# Altium schematic symbol library Resistors_GP.SchLib: 271 symbols (part 1 of 3)
Pins are listed as number, name and electrical type; pins without a type are passive.

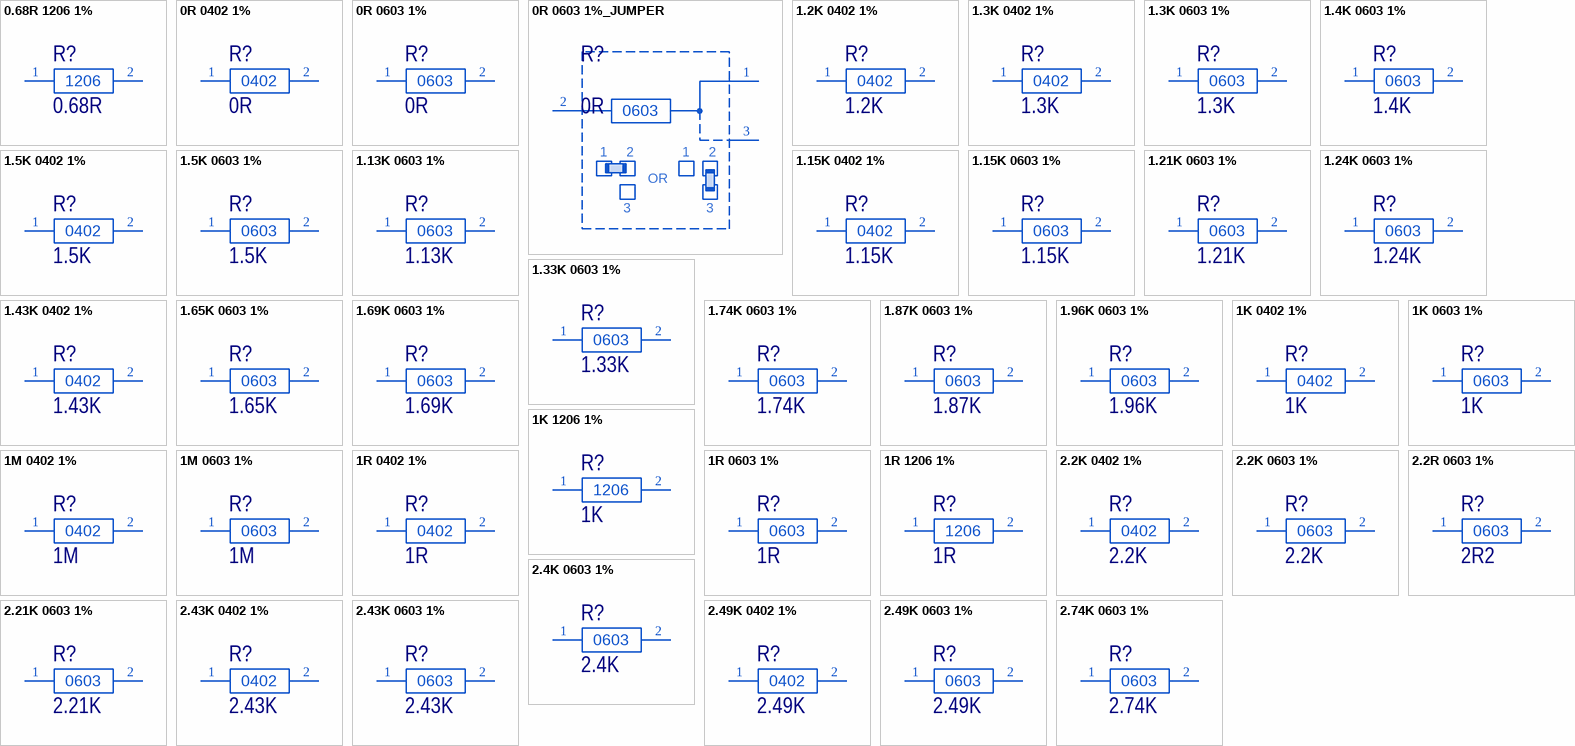
[diagram p0: symbols 0.68R 1206 1% to 2.74K 0603 1%]

## 0.68R 1206 1%
designator R?, comment 0.68R
RES 1206 0R68 1% 0.25W 1000PPMK; PartNumber: RL1206FR-070R68L; Manufacturer: Yageo; Voltage: 200 V; Temperature Coefficient: ± 1000 ppm/°C; Power Dissipation: 250 mW; ItemType: Resistor; ItemSubType: 1206; Value: 0.68R; Tolerance: ± 1 %; Marking: 0R68; Type: Thick Film; Mounting: SMD
footprint R1206GP_0R68 (Resistor 1206)
pins: 1, 2

## 0R 0402 1%
designator R?, comment 0R
RES 0402 0R 1% 0.0625W 100PPMK; PartNumber: RC0402FR-070RL; Manufacturer: Yageo; Voltage: 50 V; Temperature Coefficient: ± 200 ppm/°C; Power Dissipation: 62.5 mW; ItemType: Resistor; ItemSubType: 0402; Value: 0R; Tolerance: ± 1 %; Type: Thick Film; Mounting: SMD
footprint R0402GP (SMD040210X05MM)
footprint R0402GP_0.8 (SMD040210X05MM)
pins: 1, 2

## 0R 0603 1%
designator R?, comment 0R
RES 0603 0R 1% 0.1W 100PPMK; PartNumber: RC0603FR-070RL; Manufacturer: Yageo; Voltage: 75 V; Temperature Coefficient: ± 200 ppm/°C; Marking: 0; Power Dissipation: 100 mW; ItemType: Resistor; ItemSubType: 0603; Value: 0R; Tolerance: ± 1 %; Type: Thick Film; Mounting: SMD
footprint R0603GP_0R (SMD060316X08MM)
pins: 1, 2

## 0R 0603 1%_JUMPER
designator R?, comment 0R
RES 0603 0R 1% 0.1W 100PPMK; PartNumber: RC0603FR-070RL; Manufacturer: Yageo; Voltage: 75 V; Temperature Coefficient: ± 200 ppm/°C; Marking: 0; Power Dissipation: 100 mW; ItemType: Resistor; ItemSubType: 0603; Value: 0R; Tolerance: ± 1 %; Type: Thick Film; Mounting: SMD
footprint R0603GP_0R_JUMPER_1_2 (SMD060316X08MM)
footprint R0603GP_0R_JUMPER_2_3 (SMD060316X08MM)
pins: 1, 2, 3
text: OR

## 1.2K 0402 1%
designator R?, comment 1.2K
RES 0402 1K2 1% 0.0625W 100PPMK; PartNumber: RC0402FR-071K2L; Manufacturer: Yageo; Voltage: 50 V; Temperature Coefficient: ± 100 ppm/°C; Power Dissipation: 62.5 mW; ItemType: Resistor; ItemSubType: 0402; Value: 1.2K; Tolerance: ± 1 %; Type: Thick Film; Mounting: SMD
footprint R0402GP (SMD040210X05MM)
footprint R0402GP_0.8 (SMD040210X05MM)
pins: 1, 2

## 1.3K 0402 1%
designator R?, comment 1.3K
RES 0402 1K3 1% 0.0625W 100PPMK; PartNumber: RC0402FR-071K3L; Manufacturer: Yageo; Voltage: 50 V; Temperature Coefficient: ± 100 ppm/°C; Power Dissipation: 62.5 mW; ItemType: Resistor; ItemSubType: 0402; Value: 1.3K; Tolerance: ± 1 %; Type: Thick Film; Mounting: SMD
footprint R0402GP (SMD040210X05MM)
footprint R0402GP_0.8 (SMD040210X05MM)
pins: 1, 2

## 1.3K 0603 1%
designator R?, comment 1.3K
RES 0603 1K3 1% 0.1W 100PPMK; PartNumber: RC0603FR-071K3L; Manufacturer: Yageo; Voltage: 75 V; Temperature Coefficient: ± 100 ppm/°C; Marking: 132; Power Dissipation: 100 mW; ItemType: Resistor; ItemSubType: 0603; Value: 1.3K; Tolerance: ± 1 %; Type: Thick Film; Mounting: SMD
footprint R0603GP_132 (SMD060316X08MM)
pins: 1, 2

## 1.4K 0603 1%
designator R?, comment 1.4K
RES 0603 1K4 1% 0.1W 100PPMK; PartNumber: RC0603FR-071K4L; Manufacturer: Yageo; Voltage: 75 V; Temperature Coefficient: ± 100 ppm/°C; Marking: 15B; Power Dissipation: 100 mW; ItemType: Resistor; ItemSubType: 0603; Value: 1.4K; Tolerance: ± 1 %; Type: Thick Film; Mounting: SMD
footprint R0603GP_15B (SMD060316X08MM)
pins: 1, 2

## 1.5K 0402 1%
designator R?, comment 1.5K
RES 0402 1K5 1% 0.0625W 100PPMK; PartNumber: RC0402FR-071K5L; Manufacturer: Yageo; Voltage: 50 V; Temperature Coefficient: ± 100 ppm/°C; Power Dissipation: 62.5 mW; ItemType: Resistor; ItemSubType: 0402; Value: 1.5K; Tolerance: ± 1 %; Type: Thick Film; Mounting: SMD
footprint R0402GP (SMD040210X05MM)
footprint R0402GP_0.8 (SMD040210X05MM)
pins: 1, 2

## 1.5K 0603 1%
designator R?, comment 1.5K
RES 0603 1K5 1% 0.1W 100PPMK; PartNumber: RC0603FR-071K5L; Manufacturer: Yageo; Voltage: 75 V; Temperature Coefficient: ± 100 ppm/°C; Marking: 18B or 152; Power Dissipation: 100 mW; ItemType: Resistor; ItemSubType: 0603; Value: 1.5K; Tolerance: ± 1 %; Type: Thick Film; Mounting: SMD
footprint R0603GP_18B (SMD060316X08MM)
pins: 1, 2

## 1.13K 0603 1%
designator R?, comment 1.13K
RES 0603 1K13 1% 0.1W 100PPMK; PartNumber: RC0603FR-071K13L; Manufacturer: Yageo; Voltage: 75 V; Temperature Coefficient: ± 100 ppm/°C; Marking: 06B; Power Dissipation: 100 mW; ItemType: Resistor; ItemSubType: 0603; Value: 1.13K; Tolerance: ± 1 %; Type: Thick Film; Mounting: SMD
footprint R0603GP_06B (SMD060316X08MM)
pins: 1, 2

## 1.15K 0402 1%
designator R?, comment 1.15K
RES 0402 1K15 1% 0.0625W 100PPMK; PartNumber: RC0402FR-071K15L; Manufacturer: Yageo; Voltage: 50 V; Temperature Coefficient: ± 100 ppm/°C; Power Dissipation: 62.5 mW; ItemType: Resistor; ItemSubType: 0402; Value: 1.15K; Tolerance: ± 1 %; Type: Thick Film; Mounting: SMD
footprint R0402GP (SMD040210X05MM)
footprint R0402GP_0.8 (SMD040210X05MM)
pins: 1, 2

## 1.15K 0603 1%
designator R?, comment 1.15K
RES 0603 1K15 1% 0.1W 100PPMK; Manufacturer: Yageo; PartNumber: RC0603FR-071K15L; Voltage: 75 V; Temperature Coefficient: ± 100 ppm/°C; Marking: 07B; Power Dissipation: 100 mW; ItemType: Resistor; ItemSubType: 0603; Type: Thick Film; Tolerance: ± 1 %; Value: 1.15K; Mounting: SMD
footprint R0603GP_07B (SMD060316X08MM)
pins: 1, 2

## 1.21K 0603 1%
designator R?, comment 1.21K
RES 0603 1K21 1% 0.1W 100PPMK; PartNumber: RC0603FR-071K21L; Manufacturer: Yageo; Voltage: 75 V; Temperature Coefficient: ± 100 ppm/°C; Marking: 09B; Power Dissipation: 100 mW; ItemType: Resistor; ItemSubType: 0603; Value: 1.21K; Tolerance: ± 1 %; Type: Thick Film; Mounting: SMD
footprint R0603GP_09B (SMD060316X08MM)
pins: 1, 2

## 1.24K 0603 1%
designator R?, comment 1.24K
RES 0603 1K24 1% 0.1W 100PPMK; PartNumber: RC0603FR-071K24L; Manufacturer: Yageo; Voltage: 75 V; Temperature Coefficient: ± 100 ppm/°C; Marking: 10B; Power Dissipation: 100 mW; ItemType: Resistor; ItemSubType: 0603; Value: 1.24K; Tolerance: ± 1 %; Type: Thick Film; Mounting: SMD
footprint R0603GP_10B (SMD060316X08MM)
pins: 1, 2

## 1.33K 0603 1%
designator R?, comment 1.33K
RES 0603 1K33 1% 0.1W 100PPMK; PartNumber: RC0603FR-071K33L; Manufacturer: Yageo; Voltage: 75 V; Temperature Coefficient: ± 100 ppm/°C; Marking: 13B; Power Dissipation: 100 mW; ItemType: Resistor; ItemSubType: 0603; Value: 1.33K; Tolerance: ± 1 %; Type: Thick Film; Mounting: SMD
footprint R0603GP_13B (SMD060316X08MM)
pins: 1, 2

## 1.43K 0402 1%
designator R?, comment 1.43K
RES 0402 1K43 1% 0.0625W 100PPMK; PartNumber: RC0402FR-071K43L; Manufacturer: Yageo; Voltage: 50 V; Temperature Coefficient: ± 100 ppm/°C; Power Dissipation: 62.5 mW; ItemType: Resistor; ItemSubType: 0402; Value: 1.43K; Tolerance: ± 1 %; Type: Thick Film; Mounting: SMD
footprint R0402GP (SMD040210X05MM)
footprint R0402GP_0.8 (SMD040210X05MM)
pins: 1, 2

## 1.65K 0603 1%
designator R?, comment 1.65K
RES 0603 1K65 1% 0.1W 100PPMK; PartNumber: RC0603FR-071K65L; Manufacturer: Yageo; Voltage: 75 V; Temperature Coefficient: ± 100 ppm/°C; Marking: 22B; Power Dissipation: 100 mW; ItemType: Resistor; ItemSubType: 0603; Value: 1.65K; Tolerance: ± 1 %; Type: Thick Film; Mounting: SMD
footprint R0603GP_22B (SMD060316X08MM)
pins: 1, 2

## 1.69K 0603 1%
designator R?, comment 1.69K
RES 0603 1K69 1% 0.1W 100PPMK; Manufacturer: Yageo; PartNumber: RC0603FR-071K69L; Voltage: 75 V; Temperature Coefficient: ± 100 ppm/°C; Marking: 23B; Power Dissipation: 100 mW; ItemType: Resistor; ItemSubType: 0603; Type: Thick Film; Tolerance: ± 1 %; Value: 1.69K; Mounting: SMD
footprint R0603GP_23B (SMD060316X08MM)
pins: 1, 2

## 1.74K 0603 1%
designator R?, comment 1.74K
RES 0603 1K74 1% 0.1W 100PPMK; PartNumber: RC0603FR-071K74L; Manufacturer: Yageo; Voltage: 75 V; Temperature Coefficient: ± 100 ppm/°C; Marking: 24B; Power Dissipation: 100 mW; ItemType: Resistor; ItemSubType: 0603; Value: 1.74K; Tolerance: ± 1 %; Type: Thick Film; Mounting: SMD
footprint R0603GP_24B (SMD060316X08MM)
pins: 1, 2

## 1.87K 0603 1%
designator R?, comment 1.87K
RES 0603 1K87 1% 0.1W 100PPMK; PartNumber: RC0603FR-071K87L; Manufacturer: Yageo; Voltage: 75 V; Temperature Coefficient: ± 100 ppm/°C; Marking: 27B; Power Dissipation: 100 mW; ItemType: Resistor; ItemSubType: 0603; Value: 1.87K; Tolerance: ± 1 %; Type: Thick Film; Mounting: SMD
footprint R0603GP_27B (SMD060316X08MM)
pins: 1, 2

## 1.96K 0603 1%
designator R?, comment 1.96K
RES 0603 1K96 1% 0.1W 100PPMK; PartNumber: RC0603FR-071K96L; Manufacturer: Yageo; Voltage: 75 V; Temperature Coefficient: ± 100 ppm/°C; Marking: 29B; Power Dissipation: 100 mW; ItemType: Resistor; ItemSubType: 0603; Value: 1.96K; Tolerance: ± 1 %; Type: Thick Film; Mounting: SMD
footprint R0603GP_29B (SMD060316X08MM)
pins: 1, 2

## 1K 0402 1%
designator R?, comment 1K
RES 0402 1K 1% 0.0625W 100PPMK; PartNumber: RC0402FR-071KL; Manufacturer: Yageo; Voltage: 50 V; Temperature Coefficient: ± 100 ppm/°C; Power Dissipation: 62.5 mW; ItemType: Resistor; ItemSubType: 0402; Value: 1K; Tolerance: ± 1 %; Type: Thick Film; Mounting: SMD
footprint R0402GP (SMD040210X05MM)
footprint R0402GP_0.8 (SMD040210X05MM)
pins: 1, 2

## 1K 0603 1%
designator R?, comment 1K
RES 0603 1K 1% 0.1W 100PPMK; PartNumber: RC0603FR-071KL; Manufacturer: Yageo; Voltage: 75 V; Temperature Coefficient: ± 100 ppm/°C; Marking: 01B or 102; Power Dissipation: 100 mW; ItemType: Resistor; ItemSubType: 0603; Value: 1K; Tolerance: ± 1 %; Type: Thick Film; Mounting: SMD
footprint R0603GP_01B (SMD060316X08MM)
pins: 1, 2

## 1K 1206 1%
designator R?, comment 1K
RES 1206 1K 1% 0.25W 100PPMK; PartNumber: RC1206FR-071KL; Manufacturer: Yageo; Voltage: 200 V; Temperature Coefficient: ± 100 ppm/°C; Marking: 01B; Power Dissipation: 250 mW; ItemType: Resistor; ItemSubType: 1206; Value: 1K; Tolerance: ± 1 %; Type: Thick Film; Mounting: SMD
footprint R1206GP_01B (Resistor 1206)
pins: 1, 2

## 1M 0402 1%
designator R?, comment 1M
RES 0402 1M 1% 0.0625W 100PPMK; PartNumber: RC0402FR-071ML; Manufacturer: Yageo; Voltage: 50 V; Temperature Coefficient: ± 100 ppm/°C; Power Dissipation: 62.5 mW; ItemType: Resistor; ItemSubType: 0402; Value: 1M; Tolerance: ± 1 %; Type: Thick Film; Mounting: SMD
footprint R0402GP (SMD040210X05MM)
footprint R0402GP_0.8 (SMD040210X05MM)
pins: 1, 2

## 1M 0603 1%
designator R?, comment 1M
RES 0603 1M 1% 0.1W 100PPMK; PartNumber: RC0603FR-071ML; Manufacturer: Yageo; Voltage: 75 V; Temperature Coefficient: ± 100 ppm/°C; Marking: 01E or 105; Power Dissipation: 100 mW; ItemType: Resistor; ItemSubType: 0603; Value: 1M; Tolerance: ± 1 %; Type: Thick Film; Mounting: SMD
footprint R0603GP_01E (SMD060316X08MM)
pins: 1, 2

## 1R 0402 1%
designator R?, comment 1R
RES 0402 1R 1% 0.0625W 100PPMK; PartNumber: RC0402FR-071RL; Manufacturer: Yageo; Voltage: 50 V; Temperature Coefficient: ± 100 ppm/°C; Power Dissipation: 62.5 mW; ItemType: Resistor; ItemSubType: 0402; Value: 1R; Tolerance: ± 1 %; Type: Thick Film; Mounting: SMD
footprint R0402GP (SMD040210X05MM)
footprint R0402GP_0.8 (SMD040210X05MM)
pins: 1, 2

## 1R 0603 1%
designator R?, comment 1R
RES 0603 1R 1% 0.1W 100PPMK; PartNumber: RC0603FR-071RL; Manufacturer: Yageo; Voltage: 75 V; Temperature Coefficient: ± 200 ppm/°C; Marking: 01Y; Power Dissipation: 100 mW; ItemType: Resistor; ItemSubType: 0603; Value: 1R; Tolerance: ± 1 %; Type: Thick Film; Mounting: SMD
footprint R0603GP_01Y (SMD060316X08MM)
pins: 1, 2

## 1R 1206 1%
designator R?, comment 1R
RES 1206 1R0 1% 0.25W 200PPMK; PartNumber: RC1206FR-071RL; Manufacturer: Yageo; Voltage: 200 V; Temperature Coefficient: ± 200 ppm/°C; Power Dissipation: 250 mW; ItemType: Resistor; ItemSubType: 1206; Value: 1R; Tolerance: ± 1 %; Marking: 1R0; Type: Thick Film; Mounting: SMD
footprint R1206GP_1R0 (Resistor 1206)
pins: 1, 2

## 2.2K 0402 1%
designator R?, comment 2.2K
RES 0402 2K2 1% 0.0625W 100PPMK; PartNumber: RC0402FR-072K2L; Manufacturer: Yageo; Voltage: 50 V; Temperature Coefficient: ± 100 ppm/°C; Power Dissipation: 62.5 mW; ItemType: Resistor; ItemSubType: 0402; Value: 2.2K; Tolerance: ± 1 %; Type: Thick Film; Mounting: SMD
footprint R0402GP (SMD040210X05MM)
footprint R0402GP_0.8 (SMD040210X05MM)
pins: 1, 2

## 2.2K 0603 1%
designator R?, comment 2.2K
RES 0603 2K2 1% 0.1W 100PPMK; PartNumber: RC0603FR-072K2L; Manufacturer: Yageo; Voltage: 75 V; Temperature Coefficient: ± 100 ppm/°C; Marking: 222; Power Dissipation: 100 mW; ItemType: Resistor; ItemSubType: 0603; Value: 2.2K; Tolerance: ± 1 %; Type: Thick Film; Mounting: SMD
footprint R0603GP_222 (SMD060316X08MM)
pins: 1, 2

## 2.2R 0603 1%
designator R?, comment 2R2
RES 0603 2R2 1% 0.1W 100PPMK; PartNumber: RC0603FR-072R2L; Manufacturer: Yageo; Voltage: 75 V; Temperature Coefficient: ± 200 ppm/°C; Power Dissipation: 100 mW; ItemType: Resistor; ItemSubType: 0603; Value: 2R2; Tolerance: ± 1 %; Marking: 2R2; Type: Thick Film; Mounting: SMD
footprint R0603GP_2R2 (SMD060316X08MM)
pins: 1, 2

## 2.4K 0603 1%
designator R?, comment 2.4K
RES 0603 2K4 1% 0.1W 100PPMK; PartNumber: RC0603FR-072K4L; Manufacturer: Yageo; Voltage: 75 V; Temperature Coefficient: ± 100 ppm/°C; Marking: 242; Power Dissipation: 100 mW; ItemType: Resistor; ItemSubType: 0603; Value: 2.4K; Tolerance: ± 1 %; Type: Thick Film; Mounting: SMD
footprint R0603GP_242 (SMD060316X08MM)
pins: 1, 2

## 2.21K 0603 1%
designator R?, comment 2.21K
RES 0603 2K21 1% 0.1W 100PPMK; Manufacturer: Yageo; PartNumber: RC0603FR-072K21L; Voltage: 75 V; Temperature Coefficient: ± 100 ppm/°C; Marking: 34B; Power Dissipation: 100 mW; ItemType: Resistor; ItemSubType: 0603; Type: Thick Film; Tolerance: ± 1 %; Value: 2.21K; Mounting: SMD
footprint R0603GP_34B (SMD060316X08MM)
pins: 1, 2

## 2.43K 0402 1%
designator R?, comment 2.43K
RES 0402 2K43 1% 0.0625W 100PPMK; PartNumber: RC0402FR-072K43L; Manufacturer: Yageo; Voltage: 50 V; Temperature Coefficient: ± 100 ppm/°C; Power Dissipation: 62.5 mW; ItemType: Resistor; ItemSubType: 0402; Value: 2.43K; Tolerance: ± 1 %; Type: Thick Film; Mounting: SMD
footprint R0402GP (SMD040210X05MM)
footprint R0402GP_0.8 (SMD040210X05MM)
pins: 1, 2

## 2.43K 0603 1%
designator R?, comment 2.43K
RES 0603 2K43 1% 0.1W 100PPMK; PartNumber: RC0603FR-072K43L; Manufacturer: Yageo; Voltage: 75 V; Temperature Coefficient: ± 100 ppm/°C; Marking: 38B; Power Dissipation: 100 mW; ItemType: Resistor; ItemSubType: 0603; Value: 2.43K; Tolerance: ± 1 %; Type: Thick Film; Mounting: SMD
footprint R0603GP_38B (SMD060316X08MM)
pins: 1, 2

## 2.49K 0402 1%
designator R?, comment 2.49K
RES 0402 2K49 1% 0.0625W 100PPMK; PartNumber: RC0402FR-072K49L; Manufacturer: Yageo; Voltage: 50 V; Temperature Coefficient: ± 100 ppm/°C; Power Dissipation: 62.5 mW; ItemType: Resistor; ItemSubType: 0402; Value: 2.49K; Tolerance: ± 1 %; Type: Thick Film; Mounting: SMD
footprint R0402GP (SMD040210X05MM)
footprint R0402GP_0.8 (SMD040210X05MM)
pins: 1, 2

## 2.49K 0603 1%
designator R?, comment 2.49K
RES 0603 2K49 1% 0.1W 100PPMK; PartNumber: RC0603FR-072K49L; Manufacturer: Yageo; Voltage: 75 V; Temperature Coefficient: ± 100 ppm/°C; Marking: 39B; Power Dissipation: 100 mW; ItemType: Resistor; ItemSubType: 0603; Value: 2.49K; Tolerance: ± 1 %; Type: Thick Film; Mounting: SMD
footprint R0603GP_39B (SMD060316X08MM)
pins: 1, 2

## 2.74K 0603 1%
designator R?, comment 2.74K
RES 0603 2K74 1% 0.1W 100PPMK; PartNumber: RC0603FR-072K74L; Manufacturer: Yageo; Voltage: 75 V; Temperature Coefficient: ± 100 ppm/°C; Marking: 43B; Power Dissipation: 100 mW; ItemType: Resistor; ItemSubType: 0603; Value: 2.74K; Tolerance: ± 1 %; Type: Thick Film; Mounting: SMD
footprint R0603GP_43B (SMD060316X08MM)
pins: 1, 2

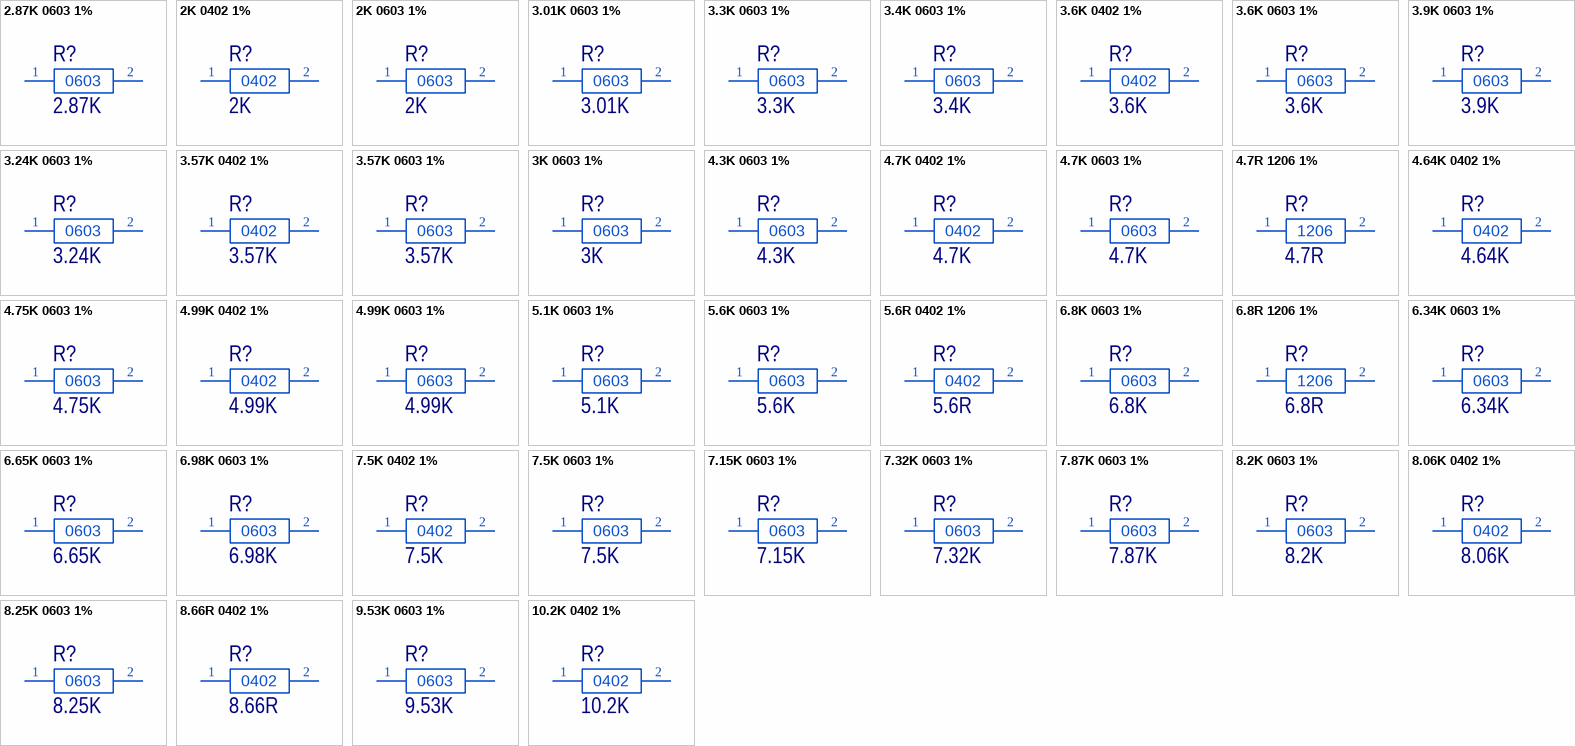
[diagram p1: symbols 2.87K 0603 1% to 10.2K 0402 1%]

## 2.87K 0603 1%
designator R?, comment 2.87K
RES 0603 2K87 1% 0.1W 100PPMK; Manufacturer: Yageo; PartNumber: RC0603FR-072K87L; Voltage: 75 V; Temperature Coefficient: ± 100 ppm/°C; Marking: 45B; Power Dissipation: 100 mW; ItemType: Resistor; ItemSubType: 0603; Type: Thick Film; Tolerance: ± 1 %; Value: 2.87K; Mounting: SMD
footprint R0603GP_45B (SMD060316X08MM)
pins: 1, 2

## 2K 0402 1%
designator R?, comment 2K
RES 0402 2K 1% 0.0625W 100PPMK; PartNumber: RC0402FR-072KL; Manufacturer: Yageo; Voltage: 50 V; Temperature Coefficient: ± 100 ppm/°C; Power Dissipation: 62.5 mW; ItemType: Resistor; ItemSubType: 0402; Value: 2K; Tolerance: ± 1 %; Type: Thick Film; Mounting: SMD
footprint R0402GP (SMD040210X05MM)
footprint R0402GP_0.8 (SMD040210X05MM)
pins: 1, 2

## 2K 0603 1%
designator R?, comment 2K
RES 0603 2K 1% 0.1W 100PPMK; PartNumber: RC0603FR-072KL; Manufacturer: Yageo; Voltage: 75 V; Temperature Coefficient: ± 100 ppm/°C; Marking: 30B or 202; Power Dissipation: 100 mW; ItemType: Resistor; ItemSubType: 0603; Value: 2K; Tolerance: ± 1 %; Type: Thick Film; Mounting: SMD
footprint R0603GP_30B (SMD060316X08MM)
pins: 1, 2

## 3.01K 0603 1%
designator R?, comment 3.01K
RES 0603 3K01 1% 0.1W 100PPMK; PartNumber: RC0603FR-073K01L; Manufacturer: Yageo; Voltage: 75 V; Temperature Coefficient: ± 100 ppm/°C; Marking: 47B; Power Dissipation: 100 mW; ItemType: Resistor; ItemSubType: 0603; Value: 3.01K; Tolerance: ± 1 %; Type: Thick Film; Mounting: SMD
footprint R0603GP_47B (SMD060316X08MM)
pins: 1, 2

## 3.3K 0603 1%
designator R?, comment 3.3K
RES 0603 3K3 1% 0.1W 100PPMK; PartNumber: RC0603FR-073K3L; Manufacturer: Yageo; Voltage: 75 V; Temperature Coefficient: ± 100 ppm/°C; Marking: 332; Power Dissipation: 100 mW; ItemType: Resistor; ItemSubType: 0603; Value: 3.3K; Tolerance: ± 1 %; Type: Thick Film; Mounting: SMD
footprint R0603GP_332 (SMD060316X08MM)
pins: 1, 2

## 3.4K 0603 1%
designator R?, comment 3.4K
RES 0603 3K4 1% 0.1W 100PPMK; PartNumber: RC0603FR-073K4L; Manufacturer: Yageo; Voltage: 75 V; Temperature Coefficient: ± 100 ppm/°C; Marking: 52B; Power Dissipation: 100 mW; ItemType: Resistor; ItemSubType: 0603; Value: 3.4K; Tolerance: ± 1 %; Type: Thick Film; Mounting: SMD
footprint R0603GP_52B (SMD060316X08MM)
pins: 1, 2

## 3.6K 0402 1%
designator R?, comment 3.6K
RES 0402 3K6 1% 0.0625W 100PPMK; PartNumber: RC0402FR-073K6L; Manufacturer: Yageo; Voltage: 50 V; Temperature Coefficient: ± 100 ppm/°C; Power Dissipation: 62.5 mW; ItemType: Resistor; ItemSubType: 0402; Value: 3.6K; Tolerance: ± 1 %; Type: Thick Film; Mounting: SMD
footprint R0402GP (SMD040210X05MM)
footprint R0402GP_0.8 (SMD040210X05MM)
pins: 1, 2

## 3.6K 0603 1%
designator R?, comment 3.6K
RES 0603 3K6 1% 0.1W 100PPMK; PartNumber: RC0603FR-073K6L; Manufacturer: Yageo; Voltage: 75 V; Temperature Coefficient: ± 100 ppm/°C; Marking: 362; Power Dissipation: 100 mW; ItemType: Resistor; ItemSubType: 0603; Value: 3.6K; Tolerance: ± 1 %; Type: Thick Film; Mounting: SMD
footprint R0603GP_362 (SMD060316X08MM)
pins: 1, 2

## 3.9K 0603 1%
designator R?, comment 3.9K
RES 0603 3K9 1% 0.1W 100PPMK; PartNumber: RC0603FR-073K9L; Manufacturer: Yageo; Voltage: 75 V; Temperature Coefficient: ± 100 ppm/°C; Marking: 392; Power Dissipation: 100 mW; ItemType: Resistor; ItemSubType: 0603; Value: 3.9K; Tolerance: ± 1 %; Type: Thick Film; Mounting: SMD
footprint R0603GP_392 (SMD060316X08MM)
pins: 1, 2

## 3.24K 0603 1%
designator R?, comment 3.24K
RES 0603 3K24 1% 0.1W 100PPMK; PartNumber: RC0603FR-073K24L; Manufacturer: Yageo; Voltage: 75 V; Temperature Coefficient: ± 100 ppm/°C; Marking: 50B; Power Dissipation: 100 mW; ItemType: Resistor; ItemSubType: 0603; Value: 3.24K; Tolerance: ± 1 %; Type: Thick Film; Mounting: SMD
footprint R0603GP_50B (SMD060316X08MM)
pins: 1, 2

## 3.57K 0402 1%
designator R?, comment 3.57K
RES 0402 3K57 1% 0.0625W 100PPMK; PartNumber: RC0402FR-073K57L; Manufacturer: Yageo; Voltage: 50 V; Temperature Coefficient: ± 100 ppm/°C; Power Dissipation: 62.5 mW; ItemType: Resistor; ItemSubType: 0402; Value: 3.57K; Tolerance: ± 1 %; Type: Thick Film; Mounting: SMD
footprint R0402GP (SMD040210X05MM)
footprint R0402GP_0.8 (SMD040210X05MM)
pins: 1, 2

## 3.57K 0603 1%
designator R?, comment 3.57K
RES 0603 3K57 1% 0.1W 100PPMK; Manufacturer: Yageo; PartNumber: RC0603FR-073K57L; Voltage: 75 V; Temperature Coefficient: ± 100 ppm/°C; Marking: 54B; Power Dissipation: 100 mW; ItemType: Resistor; ItemSubType: 0603; Type: Thick Film; Tolerance: ± 1 %; Value: 3.57K; Mounting: SMD
footprint R0603GP_54B (SMD060316X08MM)
pins: 1, 2

## 3K 0603 1%
designator R?, comment 3K
RES 0603 3K 1% 0.1W 100PPMK; PartNumber: RC0603FR-073KL; Manufacturer: Yageo; Voltage: 75 V; Temperature Coefficient: ± 100 ppm/°C; Marking: 302; Power Dissipation: 100 mW; ItemType: Resistor; ItemSubType: 0603; Value: 3K; Tolerance: ± 1 %; Type: Thick Film; Mounting: SMD
footprint R0603GP_302 (SMD060316X08MM)
pins: 1, 2

## 4.3K 0603 1%
designator R?, comment 4.3K
RES 0603 4K3 1% 0.1W 100PPMK; PartNumber: RC0603FR-074K3L; Manufacturer: Yageo; Voltage: 75 V; Temperature Coefficient: ± 100 ppm/°C; Marking: 432; Power Dissipation: 100 mW; ItemType: Resistor; ItemSubType: 0603; Value: 4.3K; Tolerance: ± 1 %; Type: Thick Film; Mounting: SMD
footprint R0603GP_432 (SMD060316X08MM)
pins: 1, 2

## 4.7K 0402 1%
designator R?, comment 4.7K
RES 0402 4K7 1% 0.0625W 100PPMK; PartNumber: RC0402FR-074K7L; Manufacturer: Yageo; Voltage: 50 V; Temperature Coefficient: ± 100 ppm/°C; Power Dissipation: 62.5 mW; ItemType: Resistor; ItemSubType: 0402; Value: 4.7K; Tolerance: ± 1 %; Type: Thick Film; Mounting: SMD
footprint R0402GP (SMD040210X05MM)
footprint R0402GP_0.8 (SMD040210X05MM)
pins: 1, 2

## 4.7K 0603 1%
designator R?, comment 4.7K
RES 0603 4K7 1% 0.1W 100PPMK; PartNumber: RC0603FR-074K7L; Manufacturer: Yageo; Voltage: 75 V; Temperature Coefficient: ± 100 ppm/°C; Marking: 472; Power Dissipation: 100 mW; ItemType: Resistor; ItemSubType: 0603; Value: 4.7K; Tolerance: ± 1 %; Type: Thick Film; Mounting: SMD
footprint R0603GP_472 (SMD060316X08MM)
pins: 1, 2

## 4.7R 1206 1%
designator R?, comment 4.7R
RES 1206 4R7 1% 0.25W 200PPMK; PartNumber: RC1206FR-074R7L; Manufacturer: Yageo; Voltage: 200 V; Temperature Coefficient: ± 200 ppm/°C; Power Dissipation: 250 mW; ItemType: Resistor; ItemSubType: 1206; Value: 4.7R; Tolerance: ± 1 %; Marking: 4R7; Type: Thick Film; Mounting: SMD
footprint R1206GP_4R7 (Resistor 1206)
pins: 1, 2

## 4.64K 0402 1%
designator R?, comment 4.64K
RES 0402 4K64 1% 0.0625W 100PPMK; PartNumber: RC0402FR-074K64L; Manufacturer: Yageo; Voltage: 50 V; Temperature Coefficient: ± 100 ppm/°C; Power Dissipation: 62.5 mW; ItemType: Resistor; ItemSubType: 0402; Value: 4.64K; Tolerance: ± 1 %; Type: Thick Film; Mounting: SMD
footprint R0402GP (SMD040210X05MM)
footprint R0402GP_0.8 (SMD040210X05MM)
pins: 1, 2

## 4.75K 0603 1%
designator R?, comment 4.75K
RES 0603 4K75 1% 0.1W 100PPMK; PartNumber: RC0603FR-074K75L; Manufacturer: Yageo; Voltage: 75 V; Temperature Coefficient: ± 100 ppm/°C; Marking: 66B; Power Dissipation: 100 mW; ItemType: Resistor; ItemSubType: 0603; Value: 4.75K; Tolerance: ± 1 %; Type: Thick Film; Mounting: SMD
footprint R0603GP_66B (SMD060316X08MM)
pins: 1, 2

## 4.99K 0402 1%
designator R?, comment 4.99K
RES 0402 4K99 1% 0.0625W 100PPMK; PartNumber: RC0402FR-074K99L; Manufacturer: Yageo; Voltage: 50 V; Temperature Coefficient: ± 100 ppm/°C; Power Dissipation: 62.5 mW; ItemType: Resistor; ItemSubType: 0402; Value: 4.99K; Tolerance: ± 1 %; Type: Thick Film; Mounting: SMD
footprint R0402GP (SMD040210X05MM)
footprint R0402GP_0.8 (SMD040210X05MM)
pins: 1, 2

## 4.99K 0603 1%
designator R?, comment 4.99K
RES 0603 4K99 1% 0.1W 100PPMK; PartNumber: RC0603FR-074K99L; Manufacturer: Yageo; Voltage: 75 V; Temperature Coefficient: ± 100 ppm/°C; Marking: 68B; Power Dissipation: 100 mW; ItemType: Resistor; ItemSubType: 0603; Value: 4.99K; Tolerance: ± 1 %; Type: Thick Film; Mounting: SMD
footprint R0603GP_68B (SMD060316X08MM)
pins: 1, 2

## 5.1K 0603 1%
designator R?, comment 5.1K
RES 0603 5K1 1% 0.1W 100PPMK; PartNumber: RC0603FR-075K1L; Manufacturer: Yageo; Voltage: 75 V; Temperature Coefficient: ± 100 ppm/°C; Marking: 512; Power Dissipation: 100 mW; ItemType: Resistor; ItemSubType: 0603; Value: 5.1K; Tolerance: ± 1 %; Type: Thick Film; Mounting: SMD
footprint R0603GP_512 (SMD060316X08MM)
pins: 1, 2

## 5.6K 0603 1%
designator R?, comment 5.6K
RES 0603 5K6 1% 0.1W 100PPMK; PartNumber: RC0603FR-075K6L; Manufacturer: Yageo; Voltage: 75 V; Temperature Coefficient: ± 100 ppm/°C; Marking: 562; Power Dissipation: 100 mW; ItemType: Resistor; ItemSubType: 0603; Value: 5.6K; Tolerance: ± 1 %; Type: Thick Film; Mounting: SMD
footprint R0603GP_562 (SMD060316X08MM)
pins: 1, 2

## 5.6R 0402 1%
designator R?, comment 5.6R
RES 0402 5R6 1% 0.0625W 100PPMK; PartNumber: RC0402FR-075R6L; Manufacturer: Yageo; Voltage: 50 V; Temperature Coefficient: ± 100 ppm/°C; Power Dissipation: 62.5 mW; ItemType: Resistor; ItemSubType: 0402; Value: 5.6R; Tolerance: ± 1 %; Type: Thick Film; Mounting: SMD
footprint R0402GP (SMD040210X05MM)
footprint R0402GP_0.8 (SMD040210X05MM)
pins: 1, 2

## 6.8K 0603 1%
designator R?, comment 6.8K
RES 0603 6K8 1% 0.1W 100PPMK; PartNumber: RC0603FR-076K8L; Manufacturer: Yageo; Voltage: 75 V; Temperature Coefficient: ± 100 ppm/°C; Marking: 682; Power Dissipation: 100 mW; ItemType: Resistor; ItemSubType: 0603; Tolerance: ± 1 %; Type: Thick Film; Value: 6.8K; Mounting: SMD
footprint R0603GP_682 (SMD060316X08MM)
pins: 1, 2

## 6.8R 1206 1%
designator R?, comment 6.8R
RES 1206 6R8 1% 0.25W 200PPMK; PartNumber: RC1206FR-076R8L; Manufacturer: Yageo; Voltage: 200 V; Temperature Coefficient: ± 200 ppm/°C; Power Dissipation: 250 mW; ItemType: Resistor; ItemSubType: 1206; Value: 6.8R; Tolerance: ± 1 %; Marking: 6R8; Type: Thick Film; Mounting: SMD
footprint R1206GP_6R8 (Resistor 1206)
pins: 1, 2

## 6.34K 0603 1%
designator R?, comment 6.34K
RES 0603 6K34 1% 0.1W 100PPMK; PartNumber: RC0603FR-076K34L; Manufacturer: Yageo; Voltage: 75 V; Temperature Coefficient: ± 100 ppm/°C; Marking: 78B; Power Dissipation: 100 mW; ItemType: Resistor; ItemSubType: 0603; Value: 6.34K; Tolerance: ± 1 %; Type: Thick Film; Mounting: SMD
footprint R0603GP_78B (SMD060316X08MM)
pins: 1, 2

## 6.65K 0603 1%
designator R?, comment 6.65K
RES 0603 6K65 1% 0.1W 100PPMK; PartNumber: RC0603FR-076K65L; Manufacturer: Yageo; Voltage: 75 V; Temperature Coefficient: ± 100 ppm/°C; Marking: 80B; Power Dissipation: 100 mW; ItemType: Resistor; ItemSubType: 0603; Value: 6.65K; Tolerance: ± 1 %; Type: Thick Film; Mounting: SMD
footprint R0603GP_80B (SMD060316X08MM)
pins: 1, 2

## 6.98K 0603 1%
designator R?, comment 6.98K
RES 0603 6K98 1% 0.1W 100PPMK; PartNumber: RC0603FR-076K98L; Manufacturer: Yageo; Voltage: 75 V; Temperature Coefficient: ± 100 ppm/°C; Marking: 82B; Power Dissipation: 100 mW; ItemType: Resistor; ItemSubType: 0603; Tolerance: ± 1 %; Type: Thick Film; Value: 6.98K; Mounting: SMD
footprint R0603GP_82B (SMD060316X08MM)
pins: 1, 2

## 7.5K 0402 1%
designator R?, comment 7.5K
RES 0402 7K5 1% 0.0625W 100PPMK; PartNumber: RC0402FR-077K5L; Manufacturer: Yageo; Voltage: 50 V; Temperature Coefficient: ± 100 ppm/°C; Power Dissipation: 62.5 mW; ItemType: Resistor; ItemSubType: 0402; Value: 7.5K; Tolerance: ± 1 %; Type: Thick Film; Mounting: SMD
footprint R0402GP (SMD040210X05MM)
footprint R0402GP_0.8 (SMD040210X05MM)
pins: 1, 2

## 7.5K 0603 1%
designator R?, comment 7.5K
RES 0603 7K5 1% 0.1W 100PPMK; PartNumber: RC0603FR-077K5L; Manufacturer: Yageo; Voltage: 75 V; Temperature Coefficient: ± 100 ppm/°C; Marking: 85B or 752; Power Dissipation: 100 mW; ItemType: Resistor; ItemSubType: 0603; Tolerance: ± 1 %; Type: Thick Film; Value: 7.5K; Mounting: SMD
footprint R0603GP_85B (SMD060316X08MM)
pins: 1, 2

## 7.15K 0603 1%
designator R?, comment 7.15K
RES 0603 7K15 1% 0.1W 100PPMK; Manufacturer: Yageo; PartNumber: RC0603FR-077K15L; Voltage: 75 V; Temperature Coefficient: ± 100 ppm/°C; Marking: 83B; Power Dissipation: 100 mW; ItemType: Resistor; ItemSubType: 0603; Type: Thick Film; Tolerance: ± 1 %; Value: 7.15K; Mounting: SMD
footprint R0603GP_83B (SMD060316X08MM)
pins: 1, 2

## 7.32K 0603 1%
designator R?, comment 7.32K
RES 0603 7K32 1% 0.1W 100PPMK; Manufacturer: Yageo; PartNumber: RC0603FR-077K32L; Voltage: 75 V; Temperature Coefficient: ± 100 ppm/°C; Marking: 84B; Power Dissipation: 100 mW; ItemType: Resistor; ItemSubType: 0603; Type: Thick Film; Tolerance: ± 1 %; Value: 7.32K; Mounting: SMD
footprint R0603GP_84B (SMD060316X08MM)
pins: 1, 2

## 7.87K 0603 1%
designator R?, comment 7.87K
RES 0603 7K87 1% 0.1W 100PPMK; PartNumber: RC0603FR-077K87L; Manufacturer: Yageo; Voltage: 75 V; Temperature Coefficient: ± 100 ppm/°C; Marking: 87B; Power Dissipation: 100 mW; ItemType: Resistor; ItemSubType: 0603; Tolerance: ± 1 %; Type: Thick Film; Value: 7.87K; Mounting: SMD
footprint R0603GP_87B (SMD060316X08MM)
pins: 1, 2

## 8.2K 0603 1%
designator R?, comment 8.2K
RES 0603 8K2 1% 0.1W 100PPMK; PartNumber: RC0603FR-078K2L; Manufacturer: Yageo; Voltage: 75 V; Temperature Coefficient: ± 100 ppm/°C; Marking: 822; Power Dissipation: 100 mW; ItemType: Resistor; ItemSubType: 0603; Tolerance: ± 1 %; Type: Thick Film; Value: 8.2K; Mounting: SMD
footprint R0603GP_822 (SMD060316X08MM)
pins: 1, 2

## 8.06K 0402 1%
designator R?, comment 8.06K
RES 0402 8K06 1% 0.0625W 100PPMK; PartNumber: RC0402FR-078K06L; Manufacturer: Yageo; Voltage: 50 V; Temperature Coefficient: ± 100 ppm/°C; Power Dissipation: 62.5 mW; ItemType: Resistor; ItemSubType: 0402; Value: 8.06K; Tolerance: ± 1 %; Type: Thick Film; Mounting: SMD
footprint R0402GP (SMD040210X05MM)
footprint R0402GP_0.8 (SMD040210X05MM)
pins: 1, 2

## 8.25K 0603 1%
designator R?, comment 8.25K
RES 0603 8K25 1% 0.1W 100PPMK; PartNumber: RC0603FR-078K25L; Manufacturer: Yageo; Voltage: 75 V; Temperature Coefficient: ± 100 ppm/°C; Marking: 89B; Power Dissipation: 100 mW; ItemType: Resistor; ItemSubType: 0603; Value: 8.25K; Tolerance: ± 1 %; Type: Thick Film; Mounting: SMD
footprint R0603GP_89B (SMD060316X08MM)
pins: 1, 2

## 8.66R 0402 1%
designator R?, comment 8.66R
RES 0402 8R66 1% 0.0625W 100PPMK; PartNumber: RC0402FR-078R66L; Manufacturer: Yageo; Voltage: 50 V; Temperature Coefficient: ± 100 ppm/°C; Power Dissipation: 62.5 mW; ItemType: Resistor; ItemSubType: 0402; Value: 8.66R; Tolerance: ± 1 %; Type: Thick Film; Mounting: SMD
footprint R0402GP (SMD040210X05MM)
footprint R0402GP_0.8 (SMD040210X05MM)
pins: 1, 2

## 9.53K 0603 1%
designator R?, comment 9.53K
RES 0603 9K53 1% 0.1W 100PPMK; PartNumber: RC0603FR-079K53L; Manufacturer: Yageo; Voltage: 75 V; Temperature Coefficient: ± 100 ppm/°C; Marking: 95B; Power Dissipation: 100 mW; ItemType: Resistor; ItemSubType: 0603; Tolerance: ± 1 %; Type: Thick Film; Value: 9.53K; Mounting: SMD
footprint R0603GP_95B (SMD060316X08MM)
pins: 1, 2

## 10.2K 0402 1%
designator R?, comment 10.2K
RES 0402 10K2 1% 0.0625W 100PPMK; PartNumber: RC0402FR-0710K2L; Manufacturer: Yageo; Voltage: 50 V; Temperature Coefficient: ± 100 ppm/°C; Power Dissipation: 62.5 mW; ItemType: Resistor; ItemSubType: 0402; Value: 10.2K; Tolerance: ± 1 %; Type: Thick Film; Mounting: SMD
footprint R0402GP (SMD040210X05MM)
footprint R0402GP_0.8 (SMD040210X05MM)
pins: 1, 2

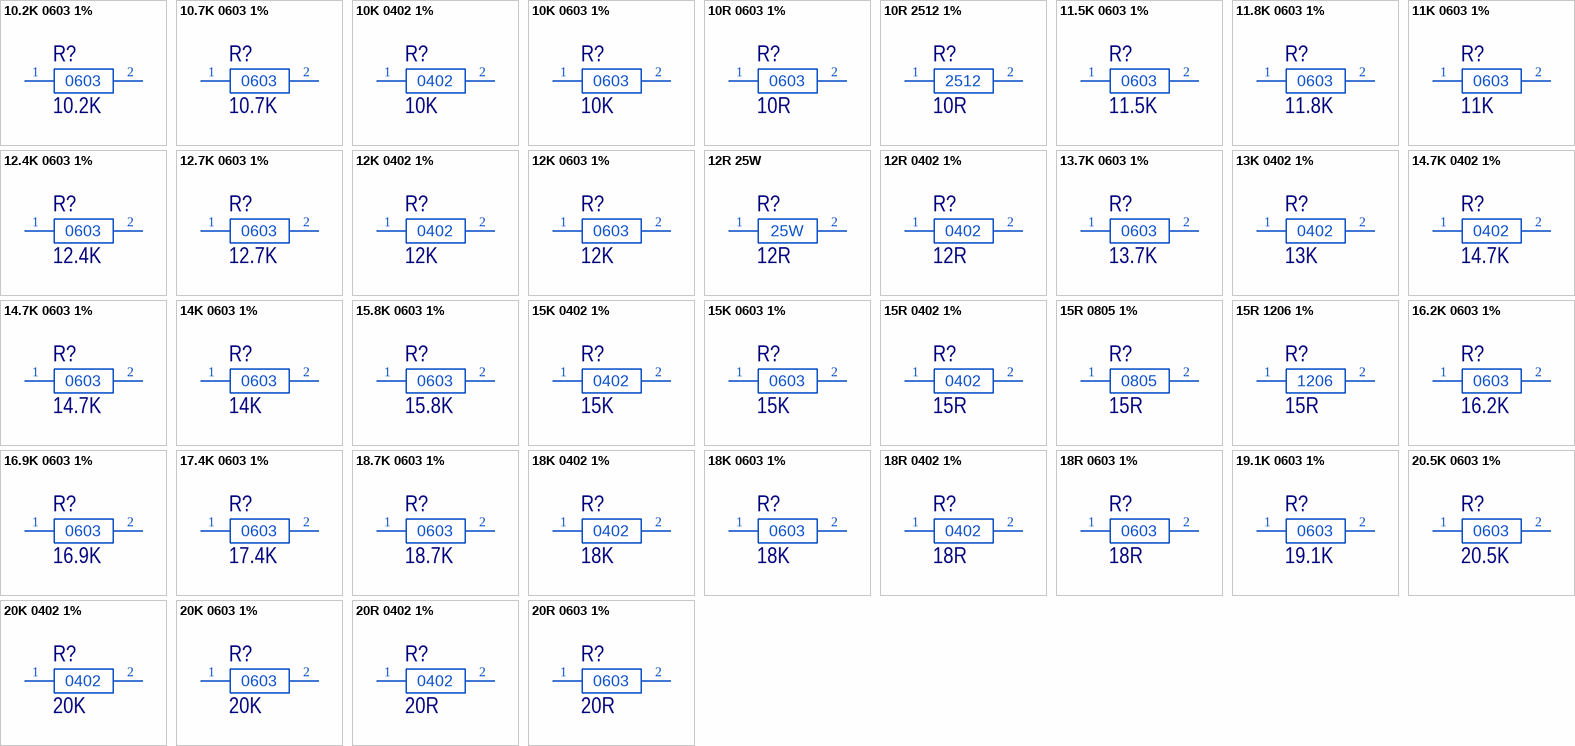
[diagram p2: symbols 10.2K 0603 1% to 20R 0603 1%]

## 10.2K 0603 1%
designator R?, comment 10.2K
RES 0603 10K2 1% 0.1W 100PPMK; Manufacturer: Yageo; PartNumber: RC0603FR-0710K2L; Voltage: 75 V; Temperature Coefficient: ± 100 ppm/°C; Marking: 02C; Power Dissipation: 100 mW; ItemType: Resistor; ItemSubType: 0603; Type: Thick Film; Tolerance: ± 1 %; Value: 10.2K; Mounting: SMD
footprint R0603GP_02C (SMD060316X08MM)
pins: 1, 2

## 10.7K 0603 1%
designator R?, comment 10.7K
RES 0603 10K7 1% 0.1W 100PPMK; Manufacturer: Yageo; PartNumber: RC0603FR-0710K7L; Voltage: 75 V; Temperature Coefficient: ± 100 ppm/°C; Marking: 04C; Power Dissipation: 100 mW; ItemType: Resistor; ItemSubType: 0603; Type: Thick Film; Tolerance: ± 1 %; Value: 10.7K; Mounting: SMD
footprint R0603GP_04C (SMD060316X08MM)
pins: 1, 2

## 10K 0402 1%
designator R?, comment 10K
RES 0402 10K 1% 0.0625W 100PPMK; PartNumber: RC0402FR-0710KL; Manufacturer: Yageo; Voltage: 50 V; Temperature Coefficient: ± 100 ppm/°C; Power Dissipation: 62.5 mW; ItemType: Resistor; ItemSubType: 0402; Value: 10K; Tolerance: ± 1 %; Type: Thick Film; Mounting: SMD
footprint R0402GP (SMD040210X05MM)
footprint R0402GP_0.8 (SMD040210X05MM)
pins: 1, 2

## 10K 0603 1%
designator R?, comment 10K
RES 0603 10K 1% 0.1W 100PPMK; Manufacturer: Yageo; PartNumber: RC0603FR-0710KL; Voltage: 75 V; Temperature Coefficient: ± 100 ppm/°C; Marking: 01C or 103; Power Dissipation: 100 mW; ItemType: Resistor; ItemSubType: 0603; Type: Thick Film; Tolerance: ± 1 %; Value: 10K; Mounting: SMD
footprint R0603GP_01C (SMD060316X08MM)
pins: 1, 2

## 10R 0603 1%
designator R?, comment 10R
RES 0603 10R 1% 0.1W 100PPMK; PartNumber: RC0603FR-0710RL; Manufacturer: Yageo; Voltage: 75 V; Temperature Coefficient: ± 200 ppm/°C; Marking: 01X or 100; Alternative1: AC0603FR-0710RL; Power Dissipation: 100 mW; ItemType: Resistor; ItemSubType: 0603; Value: 10R; Tolerance: ± 1 %; AltManufacturer1: Yageo; Type: Thick Film; Mounting: SMD
footprint R0603GP_01X (SMD060316X08MM)
pins: 1, 2

## 10R 2512 1%
designator R?, comment 10R
Thick Film Resistor 2512; PartNumber: RC2512FK-0710RL; Manufacturer: Yageo; Tolerance: ± 1 %; Voltage: 200 V; Temperature Coefficient: ± 200 ppm/°C; Marking: 10R0; Power Dissipation: 1 W; ItemSubType: 0603; Value: 10R; Type: Thick Film; ItemType: Resistor; Mounting: SMD
footprint R2512GP_10R (Resistor 2512)
pins: 1, 2
text: 2512

## 11.5K 0603 1%
designator R?, comment 11.5K
RES 0603 11.5K 1% 0.1W 100PPMK; Manufacturer: Yageo; PartNumber: RC0603FR-0711K5L; Voltage: 75 V; Temperature Coefficient: ± 100 ppm/°C; Marking: 07C; Power Dissipation: 100 mW; ItemType: Resistor; ItemSubType: 0603; Type: Thick Film; Tolerance: ± 1 %; Value: 11.5K; Mounting: SMD
footprint R0603GP_07C (SMD060316X08MM)
pins: 1, 2

## 11.8K 0603 1%
designator R?, comment 11.8K
RES 0603 11K8 1% 0.1W 100PPMK; PartNumber: RC0603FR-0711K8L; Manufacturer: Yageo; Voltage: 75 V; Temperature Coefficient: ± 100 ppm/°C; Marking: 08C; Power Dissipation: 100 mW; ItemType: Resistor; ItemSubType: 0603; Value: 11.8K; Tolerance: ± 1 %; Type: Thick Film; Mounting: SMD
footprint R0603GP_08C (SMD060316X08MM)
pins: 1, 2

## 11K 0603 1%
designator R?, comment 11K
RES 0603 11K 1% 0.1W 100PPMK; Manufacturer: Yageo; PartNumber: RC0603FR-0711KL; Voltage: 75 V; Temperature Coefficient: ± 100 ppm/°C; Marking: 113; Power Dissipation: 100 mW; ItemType: Resistor; ItemSubType: 0603; Type: Thick Film; Tolerance: ± 1 %; Value: 11K; Mounting: SMD
footprint R0603GP_113 (SMD060316X08MM)
pins: 1, 2

## 12.4K 0603 1%
designator R?, comment 12.4K
RES 0603 12K4 1% 0.1W 100PPMK; Manufacturer: Yageo; PartNumber: RC0603FR-0712K4L; Voltage: 75 V; Temperature Coefficient: ± 100 ppm/°C; Marking: 10C; Power Dissipation: 100 mW; ItemType: Resistor; ItemSubType: 0603; Type: Thick Film; Tolerance: ± 1 %; Value: 12.4K; Mounting: SMD
footprint R0603GP_10C (SMD060316X08MM)
pins: 1, 2

## 12.7K 0603 1%
designator R?, comment 12.7K
RES 0603 12K7 1% 0.1W 100PPMK; Manufacturer: Yageo; PartNumber: RC0603FR-0712K7L; Voltage: 75 V; Temperature Coefficient: ± 100 ppm/°C; Marking: 11C; Power Dissipation: 100 mW; ItemType: Resistor; ItemSubType: 0603; Type: Thick Film; Tolerance: ± 1 %; Value: 12.7K; Mounting: SMD
footprint R0603GP_11C (SMD060316X08MM)
pins: 1, 2

## 12K 0402 1%
designator R?, comment 12K
RES 0402 12K 1% 0.0625W 100PPMK; PartNumber: RC0402FR-0712KL; Manufacturer: Yageo; Voltage: 50 V; Temperature Coefficient: ± 100 ppm/°C; Power Dissipation: 62.5 mW; ItemType: Resistor; ItemSubType: 0402; Value: 12K; Tolerance: ± 1 %; Type: Thick Film; Mounting: SMD
footprint R0402GP (SMD040210X05MM)
footprint R0402GP_0.8 (SMD040210X05MM)
pins: 1, 2

## 12K 0603 1%
designator R?, comment 12K
RES 0603 12K 1% 0.1W 100PPMK; Manufacturer: Yageo; PartNumber: RC0603FR-0712KL; Voltage: 75 V; Temperature Coefficient: ± 100 ppm/°C; Marking: 123; Power Dissipation: 100 mW; ItemType: Resistor; ItemSubType: 0603; Type: Thick Film; Tolerance: ± 1 %; Value: 12K; Mounting: SMD
footprint R0603GP_123 (SMD060316X08MM)
pins: 1, 2

## 12R 25W
designator R?, comment 12R
Cement Resistor SQP25A; PartNumber: SQP25AJB-12R; Manufacturer: Yageo; Tolerance: ± 1 %; Voltage: 1000 V; Temperature Coefficient: ± 300 ppm/°C; Marking: 12RJ; Power Dissipation: 25 W; Value: 12R; Type: Cement; ItemType: Resistor; ItemSubType: SQP25A; Mounting: THT
footprint SQP25A_12R_YAGEO (Resistor SQP25A)
pins: 1, 2
text: 25W

## 12R 0402 1%
designator R?, comment 12R
RES 0402 12R 1% 0.0625W 100PPMK; PartNumber: RC0402FR-0712RL; Manufacturer: Yageo; Voltage: 50 V; Temperature Coefficient: ± 100 ppm/°C; Power Dissipation: 62.5 mW; ItemType: Resistor; ItemSubType: 0402; Value: 12R; Tolerance: ± 1 %; Type: Thick Film; Mounting: SMD
footprint R0402GP (SMD040210X05MM)
footprint R0402GP_0.8 (SMD040210X05MM)
pins: 1, 2

## 13.7K 0603 1%
designator R?, comment 13.7K
RES 0603 13K7 1% 0.1W 100PPMK; Manufacturer: Yageo; PartNumber: RC0603FR-0713K7L; Voltage: 75 V; Temperature Coefficient: ± 100 ppm/°C; Marking: 14C; Power Dissipation: 100 mW; ItemType: Resistor; ItemSubType: 0603; Type: Thick Film; Tolerance: ± 1 %; Value: 13.7K; Mounting: SMD
footprint R0603GP_14C (SMD060316X08MM)
pins: 1, 2

## 13K 0402 1%
designator R?, comment 13K
RES 0402 13K 1% 0.0625W 100PPMK; PartNumber: RC0402FR-0713KL; Manufacturer: Yageo; Voltage: 50 V; Temperature Coefficient: ± 100 ppm/°C; Power Dissipation: 62.5 mW; ItemType: Resistor; ItemSubType: 0402; Value: 13K; Tolerance: ± 1 %; Type: Thick Film; Mounting: SMD
footprint R0402GP (SMD040210X05MM)
footprint R0402GP_0.8 (SMD040210X05MM)
pins: 1, 2

## 14.7K 0402 1%
designator R?, comment 14.7K
RES 0402 14K7 1% 0.0625W 100PPMK; PartNumber: RC0402FR-0714K7L; Manufacturer: Yageo; Voltage: 50 V; Temperature Coefficient: ± 100 ppm/°C; Power Dissipation: 62.5 mW; ItemType: Resistor; ItemSubType: 0402; Value: 14.7K; Tolerance: ± 1 %; Type: Thick Film; Mounting: SMD
footprint R0402GP (SMD040210X05MM)
footprint R0402GP_0.8 (SMD040210X05MM)
pins: 1, 2

## 14.7K 0603 1%
designator R?, comment 14.7K
RES 0603 14K7 1% 0.1W 100PPMK; Manufacturer: Yageo; PartNumber: RC0603FR-0714K7L; Voltage: 75 V; Temperature Coefficient: ± 100 ppm/°C; Marking: 17C; Power Dissipation: 100 mW; ItemType: Resistor; ItemSubType: 0603; Type: Thick Film; Tolerance: ± 1 %; Value: 14.7K; Mounting: SMD
footprint R0603GP_17C (SMD060316X08MM)
pins: 1, 2

## 14K 0603 1%
designator R?, comment 14K
RES 0603 14K 1% 0.1W 100PPMK; Manufacturer: Yageo; PartNumber: RC0603FR-0714KL; Voltage: 75 V; Temperature Coefficient: ± 100 ppm/°C; Marking: 15C; Power Dissipation: 100 mW; ItemType: Resistor; ItemSubType: 0603; Type: Thick Film; Tolerance: ± 1 %; Value: 14K; Mounting: SMD
footprint R0603GP_15C (SMD060316X08MM)
pins: 1, 2

## 15.8K 0603 1%
designator R?, comment 15.8K
RES 0603 15K8 1% 0.1W 100PPMK; Manufacturer: Yageo; PartNumber: RC0603FR-0715K8L; Voltage: 75 V; Temperature Coefficient: ± 100 ppm/°C; Marking: 20C; Power Dissipation: 100 mW; ItemType: Resistor; ItemSubType: 0603; Type: Thick Film; Tolerance: ± 1 %; Value: 15.8K; Mounting: SMD
footprint R0603GP_20C (SMD060316X08MM)
pins: 1, 2

## 15K 0402 1%
designator R?, comment 15K
RES 0402 15K 1% 0.0625W 100PPMK; PartNumber: RC0402FR-0715KL; Manufacturer: Yageo; Voltage: 50 V; Temperature Coefficient: ± 100 ppm/°C; Power Dissipation: 62.5 mW; ItemType: Resistor; ItemSubType: 0402; Value: 15K; Tolerance: ± 1 %; Type: Thick Film; Mounting: SMD
footprint R0402GP (SMD040210X05MM)
footprint R0402GP_0.8 (SMD040210X05MM)
pins: 1, 2

## 15K 0603 1%
designator R?, comment 15K
RES 0603 15K 1% 0.1W 100PPMK; Manufacturer: Yageo; PartNumber: RC0603FR-0715KL; Voltage: 75 V; Temperature Coefficient: ± 100 ppm/°C; Marking: 18C or 153; Power Dissipation: 100 mW; ItemType: Resistor; ItemSubType: 0603; Type: Thick Film; Tolerance: ± 1 %; Value: 15K; Mounting: SMD
footprint R0603GP_18C (SMD060316X08MM)
pins: 1, 2

## 15R 0402 1%
designator R?, comment 15R
RES 0402 15R 1% 0.0625W 100PPMK; PartNumber: RC0402FR-0715RL; Manufacturer: Yageo; Voltage: 50 V; Temperature Coefficient: ± 100 ppm/°C; Power Dissipation: 62.5 mW; ItemType: Resistor; ItemSubType: 0402; Value: 15R; Tolerance: ± 1 %; Type: Thick Film; Mounting: SMD
footprint R0402GP (SMD040210X05MM)
footprint R0402GP_0.8 (SMD040210X05MM)
pins: 1, 2

## 15R 0805 1%
designator R?, comment 15R
RES 0805 15R 1% 0.125W 100PPMK; PartNumber: RC0805FR-0715RL; Manufacturer: Yageo; Voltage: 150 V; Temperature Coefficient: ± 100 ppm/°C; Marking: 15R0; Power Dissipation: 125 mW; ItemType: Resistor; ItemSubType: 0805; Value: 15R; Tolerance: ± 1 %; Type: Thick Film; Mounting: SMD
footprint R0805GP_15R0 (Resistor 0805)
pins: 1, 2

## 15R 1206 1%
designator R?, comment 15R
RES 1206 15R 1% 0.25W 100PPMK; PartNumber: RC1206FR-0715RL; Manufacturer: Yageo; Voltage: 200 V; Temperature Coefficient: ± 100 ppm/°C; Power Dissipation: 250 mW; ItemType: Resistor; ItemSubType: 1206; Value: 15R; Tolerance: ± 1 %; Marking: 15R; Type: Thick Film; Mounting: SMD
footprint R1206GP_15R (Resistor 1206)
pins: 1, 2

## 16.2K 0603 1%
designator R?, comment 16.2K
RES 0603 16K2 1% 0.1W 100PPMK; Manufacturer: Yageo; PartNumber: RC0603FR-0716K2L; Voltage: 75 V; Temperature Coefficient: ± 100 ppm/°C; Marking: 21C; Power Dissipation: 100 mW; ItemType: Resistor; ItemSubType: 0603; Type: Thick Film; Tolerance: ± 1 %; Value: 16.2K; Mounting: SMD
footprint R0603GP_21C (SMD060316X08MM)
pins: 1, 2

## 16.9K 0603 1%
designator R?, comment 16.9K
RES 0603 16K9 1% 0.1W 100PPMK; PartNumber: RC0603FR-0716K9L; Manufacturer: Yageo; Voltage: 75 V; Temperature Coefficient: ± 100 ppm/°C; Marking: 23C; Power Dissipation: 100 mW; ItemType: Resistor; ItemSubType: 0603; Value: 16.9K; Tolerance: ± 1 %; Type: Thick Film; Mounting: SMD
footprint R0603GP_23С (SMD060316X08MM)
pins: 1, 2

## 17.4K 0603 1%
designator R?, comment 17.4K
RES 0603 17K4 1% 0.1W 100PPMK; Manufacturer: Yageo; PartNumber: RC0603FR-0717K4L; Voltage: 75 V; Temperature Coefficient: ± 100 ppm/°C; Marking: 24C; Power Dissipation: 100 mW; ItemType: Resistor; ItemSubType: 0603; Type: Thick Film; Tolerance: ± 1 %; Value: 17.4K; Mounting: SMD
footprint R0603GP_24C (SMD060316X08MM)
pins: 1, 2

## 18.7K 0603 1%
designator R?, comment 18.7K
RES 0603 18K7 1% 0.1W 100PPMK; Manufacturer: Yageo; PartNumber: RC0603FR-0718K7L; Voltage: 75 V; Temperature Coefficient: ± 100 ppm/°C; Marking: 27C; Power Dissipation: 100 mW; ItemType: Resistor; ItemSubType: 0603; Type: Thick Film; Tolerance: ± 1 %; Value: 18.7K; Mounting: SMD
footprint R0603GP_27C (SMD060316X08MM)
pins: 1, 2

## 18K 0402 1%
designator R?, comment 18K
RES 0402 18K 1% 0.0625W 100PPMK; PartNumber: RC0402FR-0718KL; Manufacturer: Yageo; Voltage: 50 V; Temperature Coefficient: ± 100 ppm/°C; Power Dissipation: 62.5 mW; ItemType: Resistor; ItemSubType: 0402; Value: 18K; Tolerance: ± 1 %; Type: Thick Film; Mounting: SMD
footprint R0402GP (SMD040210X05MM)
footprint R0402GP_0.8 (SMD040210X05MM)
pins: 1, 2

## 18K 0603 1%
designator R?, comment 18K
RES 0603 18K 1% 0.1W 100PPMK; Manufacturer: Yageo; PartNumber: RC0603FR-0718KL; Voltage: 75 V; Temperature Coefficient: ± 100 ppm/°C; Marking: 183; Power Dissipation: 100 mW; ItemType: Resistor; ItemSubType: 0603; Type: Thick Film; Tolerance: ± 1 %; Value: 18K; Mounting: SMD
footprint R0603GP_183 (SMD060316X08MM)
pins: 1, 2

## 18R 0402 1%
designator R?, comment 18R
RES 0402 18R 1% 0.0625W 100PPMK; PartNumber: RC0402FR-0718RL; Manufacturer: Yageo; Voltage: 50 V; Temperature Coefficient: ± 100 ppm/°C; Power Dissipation: 62.5 mW; ItemType: Resistor; ItemSubType: 0402; Value: 18R; Tolerance: ± 1 %; Type: Thick Film; Mounting: SMD
footprint R0402GP (SMD040210X05MM)
footprint R0402GP_0.8 (SMD040210X05MM)
pins: 1, 2

## 18R 0603 1%
designator R?, comment 18R
RES 0603 18R 1% 0.1W 100PPMK; PartNumber: RC0603FR-0718RL; Manufacturer: Yageo; Voltage: 75 V; Temperature Coefficient: ± 200 ppm/°C; Marking: 180; Power Dissipation: 100 mW; ItemType: Resistor; ItemSubType: 0603; Value: 18R; Tolerance: ± 1 %; Type: Thick Film; Mounting: SMD
footprint R0603GP_180 (SMD060316X08MM)
pins: 1, 2

## 19.1K 0603 1%
designator R?, comment 19.1K
RES 0603 19K1 1% 0.1W 100PPMK; PartNumber: RC0603FR-0719K1L; Manufacturer: Yageo; Voltage: 75 V; Temperature Coefficient: ± 100 ppm/°C; Marking: 28C; Power Dissipation: 100 mW; ItemType: Resistor; ItemSubType: 0603; Value: 19.1K; Tolerance: ± 1 %; Type: Thick Film; Mounting: SMD
footprint R0603GP_28C (SMD060316X08MM)
pins: 1, 2

## 20.5K 0603 1%
designator R?, comment 20.5K
RES 0603 20K5 1% 0.1W 100PPMK; PartNumber: RC0603FR-0720K5L; Manufacturer: Yageo; Voltage: 75 V; Temperature Coefficient: ± 100 ppm/°C; Marking: 31C; Power Dissipation: 100 mW; ItemType: Resistor; ItemSubType: 0603; Value: 20.5K; Tolerance: ± 1 %; Type: Thick Film; Mounting: SMD
footprint R0603GP_31C (SMD060316X08MM)
pins: 1, 2

## 20K 0402 1%
designator R?, comment 20K
RES 0402 20K 1% 0.0625W 100PPMK; PartNumber: RC0402FR-0720KL; Manufacturer: Yageo; Voltage: 50 V; Temperature Coefficient: ± 100 ppm/°C; Power Dissipation: 62.5 mW; ItemType: Resistor; ItemSubType: 0402; Value: 20K; Tolerance: ± 1 %; Type: Thick Film; Mounting: SMD
footprint R0402GP (SMD040210X05MM)
footprint R0402GP_0.8 (SMD040210X05MM)
pins: 1, 2

## 20K 0603 1%
designator R?, comment 20K
RES 0603 20K 1% 0.1W 100PPMK; Manufacturer: Yageo; PartNumber: RC0603FR-0720KL; Voltage: 75 V; Temperature Coefficient: ± 100 ppm/°C; Marking: 30C or 203; Power Dissipation: 100 mW; ItemType: Resistor; ItemSubType: 0603; Type: Thick Film; Tolerance: ± 1 %; Value: 20K; Mounting: SMD
footprint R0603GP_30C (SMD060316X08MM)
pins: 1, 2

## 20R 0402 1%
designator R?, comment 20R
RES 0402 20R 1% 0.0625W 100PPMK; PartNumber: RC0402FR-0720RL; Manufacturer: Yageo; Voltage: 50 V; Temperature Coefficient: ± 100 ppm/°C; Power Dissipation: 62.5 mW; ItemType: Resistor; ItemSubType: 0402; Value: 20R; Tolerance: ± 1 %; Type: Thick Film; Mounting: SMD
footprint R0402GP (SMD040210X05MM)
footprint R0402GP_0.8 (SMD040210X05MM)
pins: 1, 2

## 20R 0603 1%
designator R?, comment 20R
RES 0603 20R 1% 0.1W 100PPMK; PartNumber: RC0603FR-0720RL; Manufacturer: Yageo; Voltage: 75 V; Temperature Coefficient: ± 100 ppm/°C; Marking: 30X or 200; Power Dissipation: 100 mW; ItemType: Resistor; ItemSubType: 0603; Value: 20R; Tolerance: ± 1 %; Type: Thick Film; Mounting: SMD
footprint R0603GP_30X (SMD060316X08MM)
pins: 1, 2

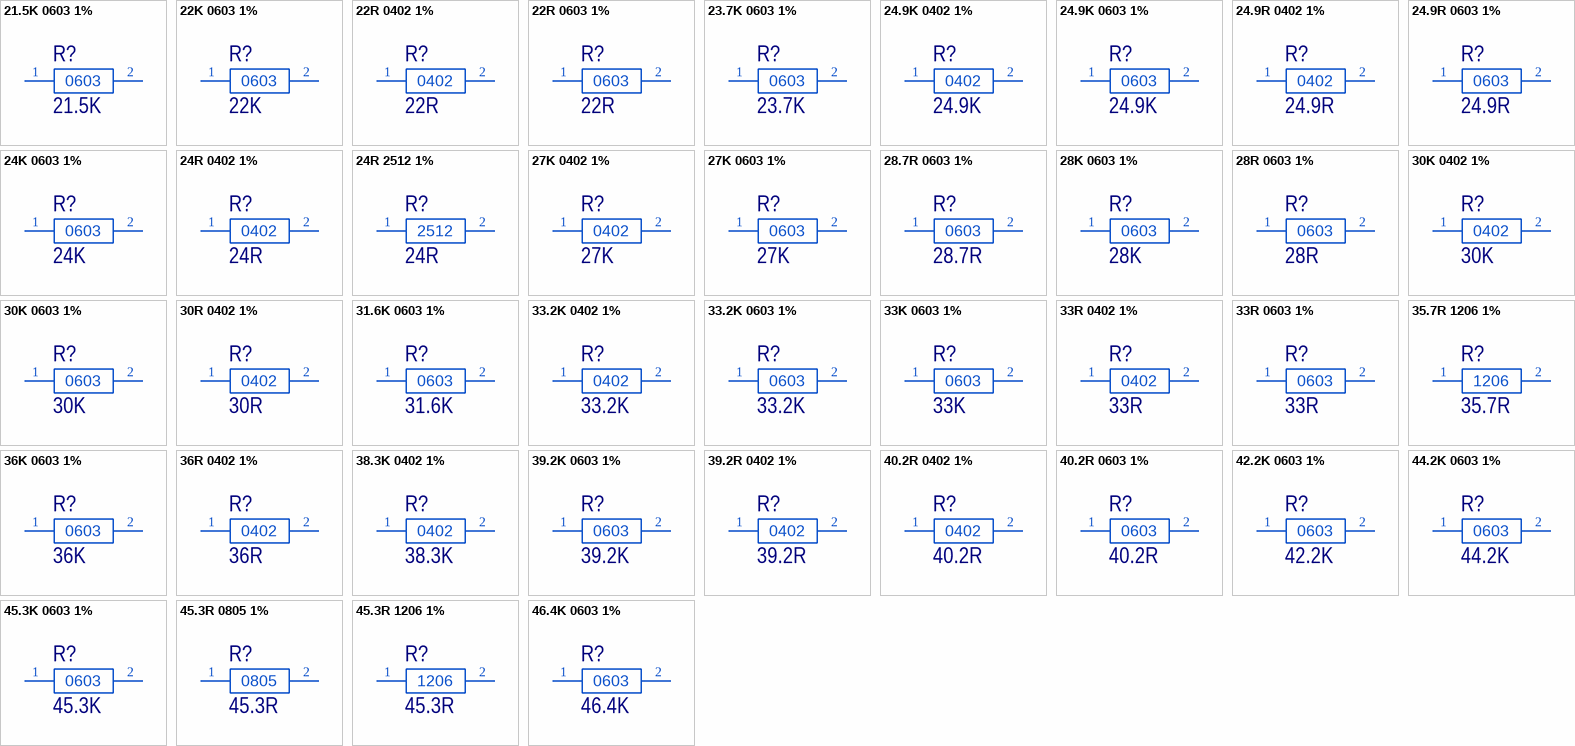
[diagram p3: symbols 21.5K 0603 1% to 46.4K 0603 1%]

## 21.5K 0603 1%
designator R?, comment 21.5K
RES 0603 21K5 1% 0.1W 100PPMK; PartNumber: RC0603FR-0721K5L; Manufacturer: Yageo; Voltage: 75 V; Temperature Coefficient: ± 100 ppm/°C; Marking: 33C; Power Dissipation: 100 mW; ItemType: Resistor; ItemSubType: 0603; Value: 21.5K; Tolerance: ± 1 %; Type: Thick Film; Mounting: SMD
footprint R0603GP_33C (SMD060316X08MM)
pins: 1, 2

## 22K 0603 1%
designator R?, comment 22K
RES 0603 22K 1% 0.1W 100PPMK; Manufacturer: Yageo; PartNumber: RC0603FR-0722KL; Voltage: 75 V; Temperature Coefficient: ± 100 ppm/°C; Marking: 223; Power Dissipation: 100 mW; ItemType: Resistor; ItemSubType: 0603; Type: Thick Film; Tolerance: ± 1 %; Value: 22K; Mounting: SMD
footprint R0603GP_223 (SMD060316X08MM)
pins: 1, 2

## 22R 0402 1%
designator R?, comment 22R
RES 0402 22R 1% 0.0625W 100PPMK; PartNumber: RC0402FR-0722RL; Manufacturer: Yageo; Voltage: 50 V; Temperature Coefficient: ± 100 ppm/°C; Power Dissipation: 62.5 mW; ItemType: Resistor; ItemSubType: 0402; Value: 22R; Tolerance: ± 1 %; Type: Thick Film; Mounting: SMD
footprint R0402GP (SMD040210X05MM)
footprint R0402GP_0.8 (SMD040210X05MM)
pins: 1, 2

## 22R 0603 1%
designator R?, comment 22R
RES 0603 22R 1% 0.1W 100PPMK; PartNumber: RC0603FR-0722RL; Manufacturer: Yageo; Voltage: 75 V; Temperature Coefficient: ± 100 ppm/°C; Marking: 220; Power Dissipation: 100 mW; ItemType: Resistor; ItemSubType: 0603; Value: 22R; Tolerance: ± 1 %; Type: Thick Film; Mounting: SMD
footprint R0603GP_220 (SMD060316X08MM)
pins: 1, 2

## 23.7K 0603 1%
designator R?, comment 23.7K
RES 0603 23K7 1% 0.1W 100PPMK; Manufacturer: Yageo; PartNumber: RC0603FR-0723K7L; Voltage: 75 V; Temperature Coefficient: ± 100 ppm/°C; Marking: 37C; Power Dissipation: 100 mW; ItemType: Resistor; ItemSubType: 0603; Type: Thick Film; Tolerance: ± 1 %; Value: 23.7K; Mounting: SMD
footprint R0603GP_37C (SMD060316X08MM)
pins: 1, 2

## 24.9K 0402 1%
designator R?, comment 24.9K
RES 0402 24K9 1% 0.0625W 100PPMK; PartNumber: RC0402FR-0724K9L; Manufacturer: Yageo; Voltage: 50 V; Temperature Coefficient: ± 100 ppm/°C; Power Dissipation: 62.5 mW; ItemType: Resistor; ItemSubType: 0402; Value: 24.9K; Tolerance: ± 1 %; Type: Thick Film; Mounting: SMD
footprint R0402GP (SMD040210X05MM)
footprint R0402GP_0.8 (SMD040210X05MM)
pins: 1, 2

## 24.9K 0603 1%
designator R?, comment 24.9K
RES 0603 24K9 1% 0.1W 100PPMK; Manufacturer: Yageo; PartNumber: RC0603FR-0724K9L; Voltage: 75 V; Temperature Coefficient: ± 100 ppm/°C; Marking: 39C; Power Dissipation: 100 mW; ItemType: Resistor; ItemSubType: 0603; Type: Thick Film; Tolerance: ± 1 %; Value: 24.9K; Mounting: SMD
footprint R0603GP_39C (SMD060316X08MM)
pins: 1, 2

## 24.9R 0402 1%
designator R?, comment 24.9R
RES 0402 24R9 1% 0.0625W 100PPMK; PartNumber: RC0402FR-0724R9L; Manufacturer: Yageo; Voltage: 50 V; Temperature Coefficient: ± 100 ppm/°C; Power Dissipation: 62.5 mW; ItemType: Resistor; ItemSubType: 0402; Value: 24.9R; Tolerance: ± 1 %; Type: Thick Film; Mounting: SMD
footprint R0402GP (SMD040210X05MM)
footprint R0402GP_0.8 (SMD040210X05MM)
pins: 1, 2

## 24.9R 0603 1%
designator R?, comment 24.9R
RES 0603 24R9 1% 0.1W 100PPMK; PartNumber: RC0603FR-0724R9L; Manufacturer: Yageo; Voltage: 75 V; Temperature Coefficient: ± 100 ppm/°C; Marking: 39X; Power Dissipation: 100 mW; ItemType: Resistor; ItemSubType: 0603; Value: 24.9R; Tolerance: ± 1 %; Type: Thick Film; Mounting: SMD
footprint R0603GP_39X (SMD060316X08MM)
pins: 1, 2

## 24K 0603 1%
designator R?, comment 24K
RES 0603 24K 1% 0.1W 100PPMK; PartNumber: RC0603FR-0724KL; Manufacturer: Yageo; Voltage: 75 V; Temperature Coefficient: ± 100 ppm/°C; Marking: 243; Power Dissipation: 100 mW; ItemType: Resistor; ItemSubType: 0603; Tolerance: ± 1 %; Type: Thick Film; Value: 24K; Mounting: SMD
footprint R0603GP_243 (SMD060316X08MM)
pins: 1, 2